# Altium footprint library PcbLib1.PcbLib: 58 footprints (part 2 of 4)
Each footprint in its own frame and in the unit in brackets; x right, y up, seen from the top. Pads: shape width x height; smd on the part's side, far side on the other; paste and mask are expansions set on the pad; w line width, h text height; cw(c..) or ccw(c..) is an arc to the next point about the centre after c.
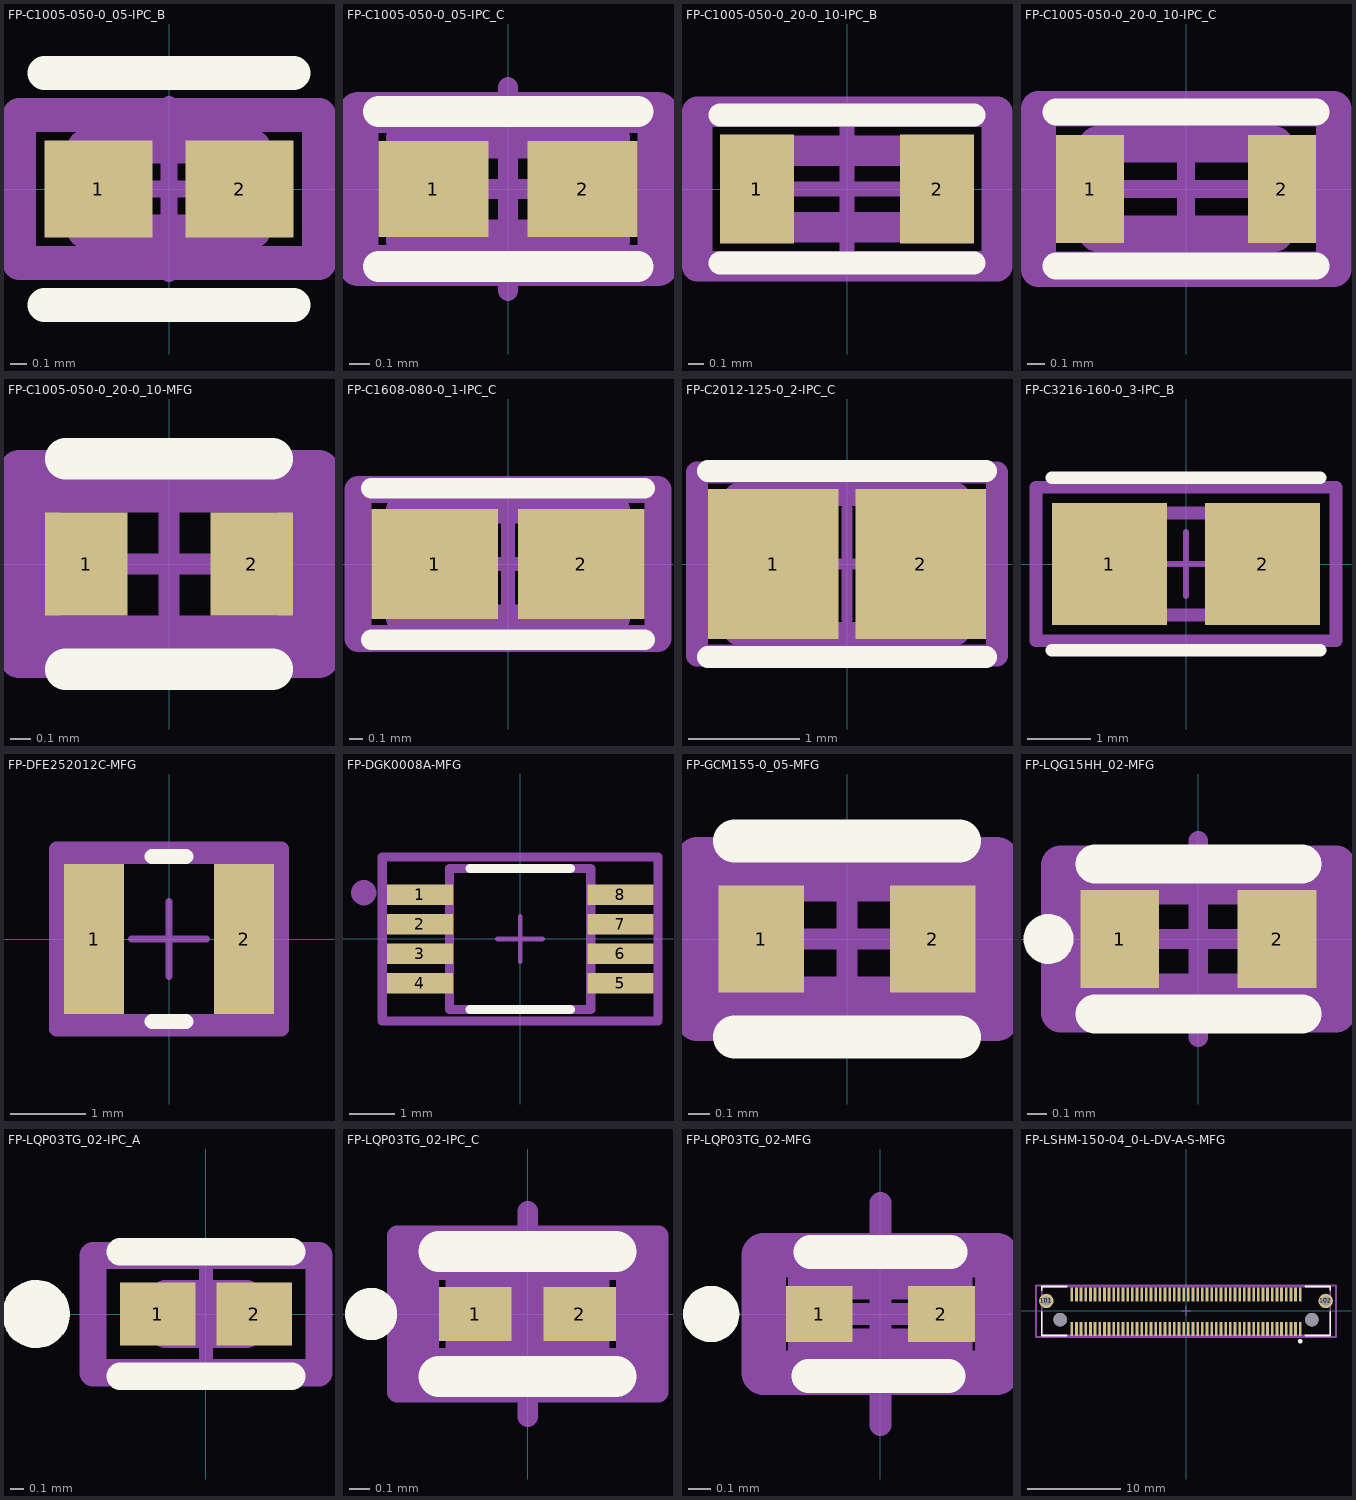
[diagram p1: the footprints below, top view; thin cyan lines are the x and y axes]

## FP-C1005-050-0_05-IPC_B [mm]
height 15.7
pads (2):
  rect 0.639x0.572 smd paste+0 mask+0: 1(-0.417,0) 2(0.417,0)
Top Overlay:
  lines w0.2: -0.736,-0.686 0.736,-0.686 ; -0.736,0.686 0.736,0.686
Top 3D Body:
  lines w0.2: -0.5,-0.25 0.5,-0.25 0.5,0.25 -0.5,0.25 -0.5,-0.25
Top Courtyard:
  lines w0.2: -0.886,-0.436 0.886,-0.436 0.886,0.436 -0.886,0.436 -0.886,-0.436
Top Assembly:
  lines w0.2: -0.886,-0.436 0.886,-0.436 0.886,0.436 -0.886,0.436 -0.886,-0.436
Top Component Center:
  lines w0.1: -0.5,0 0.5,0 ; 0,-0.5 0,0.5
3D body "Cap_TDK_C1005X6S1C105K050BC_eec.STEP": height 0.25, standoff 0, extent -0.886,-0.436 0.886,0.436

## FP-C1005-050-0_05-IPC_C [mm]
pads (2):
  rect 0.539x0.472 smd paste+0 mask+0: 1(-0.367,0) 2(0.367,0)
Top Overlay:
  lines w0.152: -0.635,-0.381 0.637,-0.381 ; -0.635,0.381 0.637,0.381
Top 3D Body:
  lines w0.2: -0.5,-0.25 0.5,-0.25 0.5,0.25 -0.5,0.25 -0.5,-0.25
Top Courtyard:
  lines w0.2: -0.736,-0.375 0.736,-0.375 0.736,0.375 -0.736,0.375 -0.736,-0.375
Top Assembly:
  lines w0.1: -0.736,-0.375 0.736,-0.375 0.736,0.375 -0.736,0.375 -0.736,-0.375
  text ".Designator" at -0.635,-0.231 h0.8
Top Component Center:
  lines w0.1: -0.5,0 0.5,0 ; 0,-0.5 0,0.5
3D body "Cap_TDK_C1005X6S1C105K050BC_eec.STEP": height 0.55, standoff 0, extent -0.5,-0.25 0.5,0.25

## FP-C1005-050-0_20-0_10-IPC_B [mm]
pads (2):
  rect 0.482x0.708 smd paste+0 mask+0: 1(-0.587,0) 2(0.587,0)
Top Overlay:
  lines w0.152: -0.829,-0.483 0.829,-0.483 ; -0.829,0.483 0.829,0.483
Top 3D Body:
  lines w0.2: -0.5,-0.25 -0.5,0.25 0.5,0.25 0.5,-0.25 -0.5,-0.25
Top Courtyard:
  lines w0.2: -0.979,-0.504 -0.979,0.504 0.979,0.504 0.979,-0.504 -0.979,-0.504
Top Assembly:
  lines w0.2: -0.979,-0.504 -0.979,0.504 0.979,0.504 0.979,-0.504 -0.979,-0.504
  text ".Designator" at 1.36,-0.698 h1
Top Component Center:
  lines w0.1: -0.5,0 0.5,0 ; 0,-0.5 0,0.5

## FP-C1005-050-0_20-0_10-IPC_C [mm]
pads (2):
  rect 0.382x0.608 smd paste+0 mask+0: 1(-0.537,0) 2(0.537,0)
Top Overlay:
  lines w0.152: -0.729,-0.432 0.729,-0.432 ; -0.729,0.432 0.729,0.432
Top 3D Body:
  lines w0.2: -0.5,-0.25 0.5,-0.25 0.5,0.25 -0.5,0.25 -0.5,-0.25
Top Courtyard:
  lines w0.2: -0.829,-0.45 0.829,-0.45 0.829,0.45 -0.829,0.45 -0.829,-0.45
Top Assembly:
  lines w0.1: -0.829,-0.45 0.829,-0.45 0.829,0.45 -0.829,0.45 -0.829,-0.45
  text ".Designator" at -0.762,-0.212 h0.9
Top Component Center:
  lines w0.1: -0.5,0 0.5,0 ; 0,-0.5 0,0.5
3D body "Cap_TDK_C1005X5R1A475K050BE_eec.STEP": height 0.55, standoff 0, extent -0.5,-0.25 0.5,0.25

## FP-C1005-050-0_20-0_10-MFG [mm]
pads (2):
  rect 0.4x0.5 smd paste+0 mask+0: 1(-0.4,0) 2(0.4,0)
Top Overlay:
  lines w0.2: -0.5,-0.508 0.5,-0.508 ; -0.5,0.508 0.5,0.508
Top 3D Body:
  lines w0.2: -0.625,-0.35 -0.625,0.35 0.625,0.35 0.625,-0.35 -0.625,-0.35
Top Courtyard:
  lines w0.2: -0.725,-0.45 -0.725,0.45 0.725,0.45 0.725,-0.45 -0.725,-0.45
Top Assembly:
  lines w0.2: -0.725,-0.45 -0.725,0.45 0.725,0.45 0.725,-0.45 -0.725,-0.45
  text ".Designator" at 1.357,-0.508 h1
Top Component Center:
  lines w0.1: -0.5,0 0.5,0 ; 0,-0.5 0,0.5
3D body "Cap_TDK_C1005X5R1A475K050BE_eec.STEP": height 0.55, standoff 0, extent -0.5,-0.25 0.5,0.25

## FP-C1608-080-0_1-IPC_C [mm]
pads (2):
  rect 0.931x0.812 smd paste+0 mask+0: 1(-0.541,0) 2(0.541,0)
Top Overlay:
  lines w0.152: -1.006,-0.559 1.006,-0.559 ; -1.006,0.559 1.006,0.559
Top 3D Body:
  lines w0.2: -0.8,-0.4 0.8,-0.4 0.8,0.4 -0.8,0.4 -0.8,-0.4
Top Courtyard:
  lines w0.2: -1.106,-0.55 1.106,-0.55 1.106,0.55 -1.106,0.55 -1.106,-0.55
Top Assembly:
  lines w0.1: -1.106,-0.55 1.106,-0.55 1.106,0.55 -1.106,0.55 -1.106,-0.55
  text ".Designator" at -0.889,-0.32 h1
Top Component Center:
  lines w0.1: -0.5,0 0.5,0 ; 0,-0.5 0,0.5
3D body "Cap_TDK_C1608X6S0G106K080AB_eec.STEP": height 0.25, standoff 0, extent -1.106,-0.55 1.106,0.55

## FP-C2012-125-0_2-IPC_C [mm]
pads (2):
  rect 1.178x1.356 smd paste+0 mask+0: 1(-0.664,0) 2(0.664,0)
Top Overlay:
  lines w0.2: -1.253,-0.838 1.253,-0.838 ; -1.253,0.838 1.253,0.838
Top 3D Body:
  lines w0.2: -1,-0.625 -1,0.625 1,0.625 1,-0.625 -1,-0.625
Top Courtyard:
  lines w0.2: -1.353,-0.825 -1.353,0.825 1.353,0.825 1.353,-0.825 -1.353,-0.825
Top Assembly:
  lines w0.1: -1.353,-0.825 -1.353,0.825 1.353,0.825 1.353,-0.825 -1.353,-0.825
  text ".Designator" at -0.889,-0.193 h1
Top Component Center:
  lines w0.1: -0.5,0 0.5,0 ; 0,-0.5 0,0.5
3D body "Cap_TDK_C2012X7R1E474K125AA_eec.STEP": height 0.25, standoff 0, extent -1.353,-0.825 1.353,0.825

## FP-C3216-160-0_3-IPC_B [mm]
pads (2):
  rect 1.804x1.906 smd paste+0 mask+0: 1(-1.201,0) 2(1.201,0)
Top Overlay:
  lines w0.2: -2.103,-1.353 2.103,-1.353 ; -2.103,1.353 2.103,1.353
Top 3D Body:
  lines w0.2: -1.6,-0.8 -1.6,0.8 1.6,0.8 1.6,-0.8 -1.6,-0.8
Top Courtyard:
  lines w0.2: -2.353,-1.203 -2.353,1.203 2.353,1.203 2.353,-1.203 -2.353,-1.203
Top Assembly:
  lines w0.1: -2.353,-1.203 -2.353,1.203 2.353,1.203 2.353,-1.203 -2.353,-1.203
  text ".Designator" at -1.524,-0.32 h1
Top Component Center:
  lines w0.1: -0.5,0 0.5,0 ; 0,-0.5 0,0.5
3D body "Cap_TDK_C3216X5R1A686M160AC_eec.STEP": height 0.25, standoff 0, extent -2.353,-1.203 2.353,1.203

## FP-DFE252012C-MFG [mm]
pads (2):
  rect 0.8x2 smd paste+0 mask+0: 1(-1,0) 2(1,0)
Top Overlay:
  lines w0.2: -0.225,-1.1 0.225,-1.1 ; -0.225,1.1 0.225,1.1
Top 3D Body:
  lines w0.2: -1.35,-1.1 1.35,-1.1 1.35,1.1 -1.35,1.1 -1.35,-1.1
Top Courtyard:
  lines w0.2: -1.5,-1.2 1.5,-1.2 1.5,1.2 -1.5,1.2 -1.5,-1.2
Top Assembly:
  lines w0.1: -1.5,-1.2 1.5,-1.2 1.5,1.2 -1.5,1.2 -1.5,-1.2
  text ".Designator" at -1.016,-0.193 h1
Top Component Center:
  lines w0.1: -0.5,0 0.5,0 ; 0,-0.5 0,0.5
3D body "Ind_Murata_DFE252012F-4R7M=P2_eec.STEP": height 1.2, standoff 0, extent -1.25,-1 1.25,1

## FP-DGK0008A-MFG [mm]
pads (8):
  rect 1.45x0.45 smd paste+0 mask+0: 1(-2.2,0.975) 2(-2.2,0.325) 3(-2.2,-0.325) 4(-2.2,-0.975) 5(2.2,-0.975) 6(2.2,-0.325) 7(2.2,0.325) 8(2.2,0.975)
Top Overlay:
  lines w0.2: -1.1,-1.55 1.1,-1.55 ; -1.1,1.55 1.1,1.55
Top 3D Body:
  lines w0.2: -1.55,-1.55 -1.55,1.55 1.55,1.55 1.55,-1.55 -1.55,-1.55
Top Courtyard:
  lines w0.2: -3.025,-1.8 -3.025,1.8 3.025,1.8 3.025,-1.8 -3.025,-1.8
Top Assembly:
  circle w0.3: c-3.429,1.016 r0.127
  lines w0.1: -3.025,-1.8 -3.025,1.8 3.025,1.8 3.025,-1.8 -3.025,-1.8
  text "1" at -2.032,0.889 h0.7
  text ".Designator" at -1.143,-0.353 h1.5
Top Component Center:
  lines w0.1: -0.5,0 0.5,0 ; 0,-0.5 0,0.5
3D body "IC_Texas_Instruments_LM3881MME-NOPB_eec.STEP": height 0.25, standoff 0, extent -3.025,-1.8 3.025,1.8

## FP-GCM155-0_05-MFG [mm]
pads (2):
  rect 0.4x0.5 smd paste+0 mask+0: 1(-0.4,0) 2(0.4,0)
Top Overlay:
  lines w0.2: -0.525,-0.457 0.525,-0.457 ; -0.525,0.457 0.525,0.457
Top 3D Body:
  lines w0.2: -0.525,-0.275 -0.525,0.275 0.525,0.275 0.525,-0.275 -0.525,-0.275
Top Courtyard:
  lines w0.2: -0.7,-0.375 -0.7,0.375 0.7,0.375 0.7,-0.375 -0.7,-0.375
Top Assembly:
  lines w0.1: -0.7,-0.375 -0.7,0.375 0.7,0.375 0.7,-0.375 -0.7,-0.375
  text ".Designator" at -0.635,-0.231 h0.8
Top Component Center:
  lines w0.1: -0.5,0 0.5,0 ; 0,-0.5 0,0.5
3D body "Cap_Murata_GCM155R71H271KA37D_eec.STEP": height 0.25, standoff 0, extent -0.7,-0.375 0.7,0.375

## FP-LQG15HH_02-MFG [mm]
pads (2):
  rect 0.4x0.5 smd paste+0 mask+0: 1(-0.4,0) 2(0.4,0)
Top Overlay:
  circle w0.127: c-0.762,0 r0.064
  lines w0.2: -0.525,-0.381 0.525,-0.381 ; -0.525,0.381 0.525,0.381
Top 3D Body:
  lines w0.2: -0.525,-0.275 0.525,-0.275 0.525,0.275 -0.525,0.275 -0.525,-0.275
Top Courtyard:
  lines w0.2: -0.7,-0.375 0.7,-0.375 0.7,0.375 -0.7,0.375 -0.7,-0.375
Top Assembly:
  lines w0.2: -0.7,-0.375 0.7,-0.375 0.7,0.375 -0.7,0.375 -0.7,-0.375
  text ".Designator" at 0.882,0.642 h1
Top Component Center:
  lines w0.1: -0.5,0 0.5,0 ; 0,-0.5 0,0.5
3D body "Ind_Murata_LQG15HN39NJ02D_eec.STEP": height 0.25, standoff 0, extent -0.7,-0.375 0.7,0.375

## FP-LQP03TG_02-IPC_A [mm]
pads (2):
  rect 0.554x0.463 smd paste+0 mask+0: 1(-0.354,0) 2(0.354,0)
Top Overlay:
  circle w0.25: c-1.25,0 r0.125
  lines w0.2: -0.631,-0.457 0.631,-0.457 ; -0.631,0.457 0.631,0.457
Top 3D Body:
  lines w0.2: -0.3,-0.15 -0.3,0.15 0.3,0.15 0.3,-0.15 -0.3,-0.15
Top Courtyard:
  lines w0.2: -0.831,-0.431 -0.831,0.431 0.831,0.431 0.831,-0.431 -0.831,-0.431
Top Assembly:
  lines w0.2: -0.831,-0.431 -0.831,0.431 0.831,0.431 0.831,-0.431 -0.831,-0.431
  text ".Designator" at 0.882,0.642 h1
Top Component Center:
  lines w0.1: -0.5,0 0.5,0 ; 0,-0.5 0,0.5
3D body "Ind_Murata_LQP03TN3N7BZ2J_eec.STEP": height 0.25, standoff 0, extent -0.831,-0.431 0.831,0.431

## FP-LQP03TG_02-IPC_C [mm]
pads (2):
  rect 0.354x0.263 smd paste+0 mask+0: 1(-0.254,0) 2(0.254,0)
Top Overlay:
  circle w0.127: c-0.762,0 r0.064
  lines w0.2: -0.431,-0.305 0.431,-0.305 ; -0.431,0.305 0.431,0.305
Top 3D Body:
  lines w0.2: -0.3,-0.15 -0.3,0.15 0.3,0.15 0.3,-0.15 -0.3,-0.15
Top Courtyard:
  lines w0.2: -0.531,-0.265 -0.531,0.265 0.531,0.265 0.531,-0.265 -0.531,-0.265
Top Assembly:
  lines w0.1: -0.635,-0.381 -0.635,0.381 0.635,0.381 0.635,-0.381 -0.635,-0.381
  text ".Designator" at -0.508,-0.231 h0.8
Top Component Center:
  lines w0.1: -0.5,0 0.5,0 ; 0,-0.5 0,0.5
3D body "Ind_Murata_LQP03TN3N7BZ2J_eec.STEP": height 0.25, standoff 0, extent -0.531,-0.265 0.531,0.265

## FP-LQP03TG_02-MFG [mm]
pads (2):
  rect 0.3x0.25 smd paste+0 mask+0: 1(-0.275,0) 2(0.275,0)
Top Overlay:
  circle w0.127: c-0.762,0 r0.064
  lines w0.152: -0.323,-0.279 0.307,-0.279 ; -0.315,0.279 0.315,0.279
Top 3D Body:
  lines w0.2: -0.315,-0.165 -0.315,0.165 0.315,0.165 0.315,-0.165 -0.315,-0.165
Top Courtyard:
  lines w0.2: -0.525,-0.265 -0.525,0.265 0.525,0.265 0.525,-0.265 -0.525,-0.265
Top Assembly:
  lines w0.1: -0.525,-0.265 0.525,-0.265 0.525,0.265 -0.525,0.265 -0.525,-0.265
  text ".Designator" at -0.508,-0.25 h0.7
Top Component Center:
  lines w0.1: -0.5,0 0.5,0 ; 0,-0.5 0,0.5
3D body "Ind_Murata_LQP03TN3N7BZ2J_eec.STEP": height 0.25, standoff 0, extent -0.525,-0.265 0.525,0.265

## FP-LSHM-150-04_0-L-DV-A-S-MFG [mm]
pads (104):
  rect 0.3x1.5 smd paste+0 mask+0: 1(12.25,-1.925) 2(12.25,1.775) 3(11.75,-1.925) 4(11.75,1.775) 5(11.25,-1.925) 6(11.25,1.775) 7(10.75,-1.925) 8(10.75,1.775) 9(10.25,-1.925) 10(10.25,1.775) 11(9.75,-1.925) 12(9.75,1.775) 13(9.25,-1.925) 14(9.25,1.775) 15(8.75,-1.925) 16(8.75,1.775) 17(8.25,-1.925) 18(8.25,1.775) 19(7.75,-1.925) 20(7.75,1.775) 21(7.25,-1.925) 22(7.25,1.775) 23(6.75,-1.925) 24(6.75,1.775) 25(6.25,-1.925) 26(6.25,1.775) 27(5.75,-1.925) 28(5.75,1.775) 29(5.25,-1.925) 30(5.25,1.775) 31(4.75,-1.925) 32(4.75,1.775) 33(4.25,-1.925) 34(4.25,1.775) 35(3.75,-1.925) 36(3.75,1.775) 37(3.25,-1.925) 38(3.25,1.775) 39(2.75,-1.925) 40(2.75,1.775) 41(2.25,-1.925) 42(2.25,1.775) 43(1.75,-1.925) 44(1.75,1.775) 45(1.25,-1.925) 46(1.25,1.775) 47(0.75,-1.925) 48(0.75,1.775) 49(0.25,-1.925) 50(0.25,1.775) 51(-0.25,-1.925) 52(-0.25,1.775) 53(-0.75,-1.925) 54(-0.75,1.775) 55(-1.25,-1.925) 56(-1.25,1.775) 57(-1.75,-1.925) 58(-1.75,1.775) 59(-2.25,-1.925) 60(-2.25,1.775) 61(-2.75,-1.925) 62(-2.75,1.775) 63(-3.25,-1.925) 64(-3.25,1.775) 65(-3.75,-1.925) 66(-3.75,1.775) 67(-4.25,-1.925) 68(-4.25,1.775) 69(-4.75,-1.925) 70(-4.75,1.775) 71(-5.25,-1.925) 72(-5.25,1.775) 73(-5.75,-1.925) 74(-5.75,1.775) 75(-6.25,-1.925) 76(-6.25,1.775) 77(-6.75,-1.925) 78(-6.75,1.775) 79(-7.25,-1.925) 80(-7.25,1.775) 81(-7.75,-1.925) 82(-7.75,1.775) 83(-8.25,-1.925) 84(-8.25,1.775) 85(-8.75,-1.925) 86(-8.75,1.775) 87(-9.25,-1.925) 88(-9.25,1.775) 89(-9.75,-1.925) 90(-9.75,1.775) 91(-10.25,-1.925) 92(-10.25,1.775) 93(-10.75,-1.925) 94(-10.75,1.775) 95(-11.25,-1.925) 96(-11.25,1.775) 97(-11.75,-1.925) 98(-11.75,1.775) 99(-12.25,-1.925) 100(-12.25,1.775)
  round 1.55 hole 1 paste-2539.97 mask+0: 101(-14.975,1.075) 102(14.975,1.075)
  round 1.45 hole 1.45 unplated paste-2539.97 mask+0: ""(-13.5,-0.925) ""(13.5,-0.925)
Top Overlay:
  circle w0.25: c12.25,-3.25 r0.125
  lines w0.2: -15.465,-0.075 -15.465,-2.63 -12.775,-2.63 ; -15.465,2.225 -15.465,2.63 -12.775,2.63 ; 12.775,-2.63 15.465,-2.63 15.465,-0.075 ; 12.775,2.63 15.465,2.63 15.465,2.225
Top Paste:
  circle w1: c-14.975,1.075 r0.5
  circle w1: c14.975,1.075 r0.5
Top 3D Body:
  lines w0.2: -15.465,-2.63 -15.465,2.63 15.465,2.63 15.465,-2.63 -15.465,-2.63
Top Courtyard:
  lines w0.2: -16.075,-2.775 -16.075,2.73 16.075,2.73 16.075,-2.775 -16.075,-2.775
Top Assembly:
  lines w0.2: -16.075,-2.775 -16.075,2.73 16.075,2.73 16.075,-2.775 -16.075,-2.775
  text ".Designator" at 0.482,1.112 h1
Top Component Center:
  lines w0.1: -0.5,0 0.5,0 ; 0,-0.5 0,0.5
3D body "Conn_Samtec_LSHM-150-04_0-L-DV-A-S-K-TR_eec.STEP": height 0.25, standoff 0, extent -16.075,-2.775 16.075,2.73